# Altium footprint library PCB1.PcbLib: 31 footprints (part 2 of 2)
Each footprint in its own frame and in the unit in brackets; x right, y up, seen from the top. Pads: shape width x height; smd on the part's side, far side on the other; paste and mask are expansions set on the pad; w line width, h text height; cw(c..) or ccw(c..) is an arc to the next point about the centre after c.
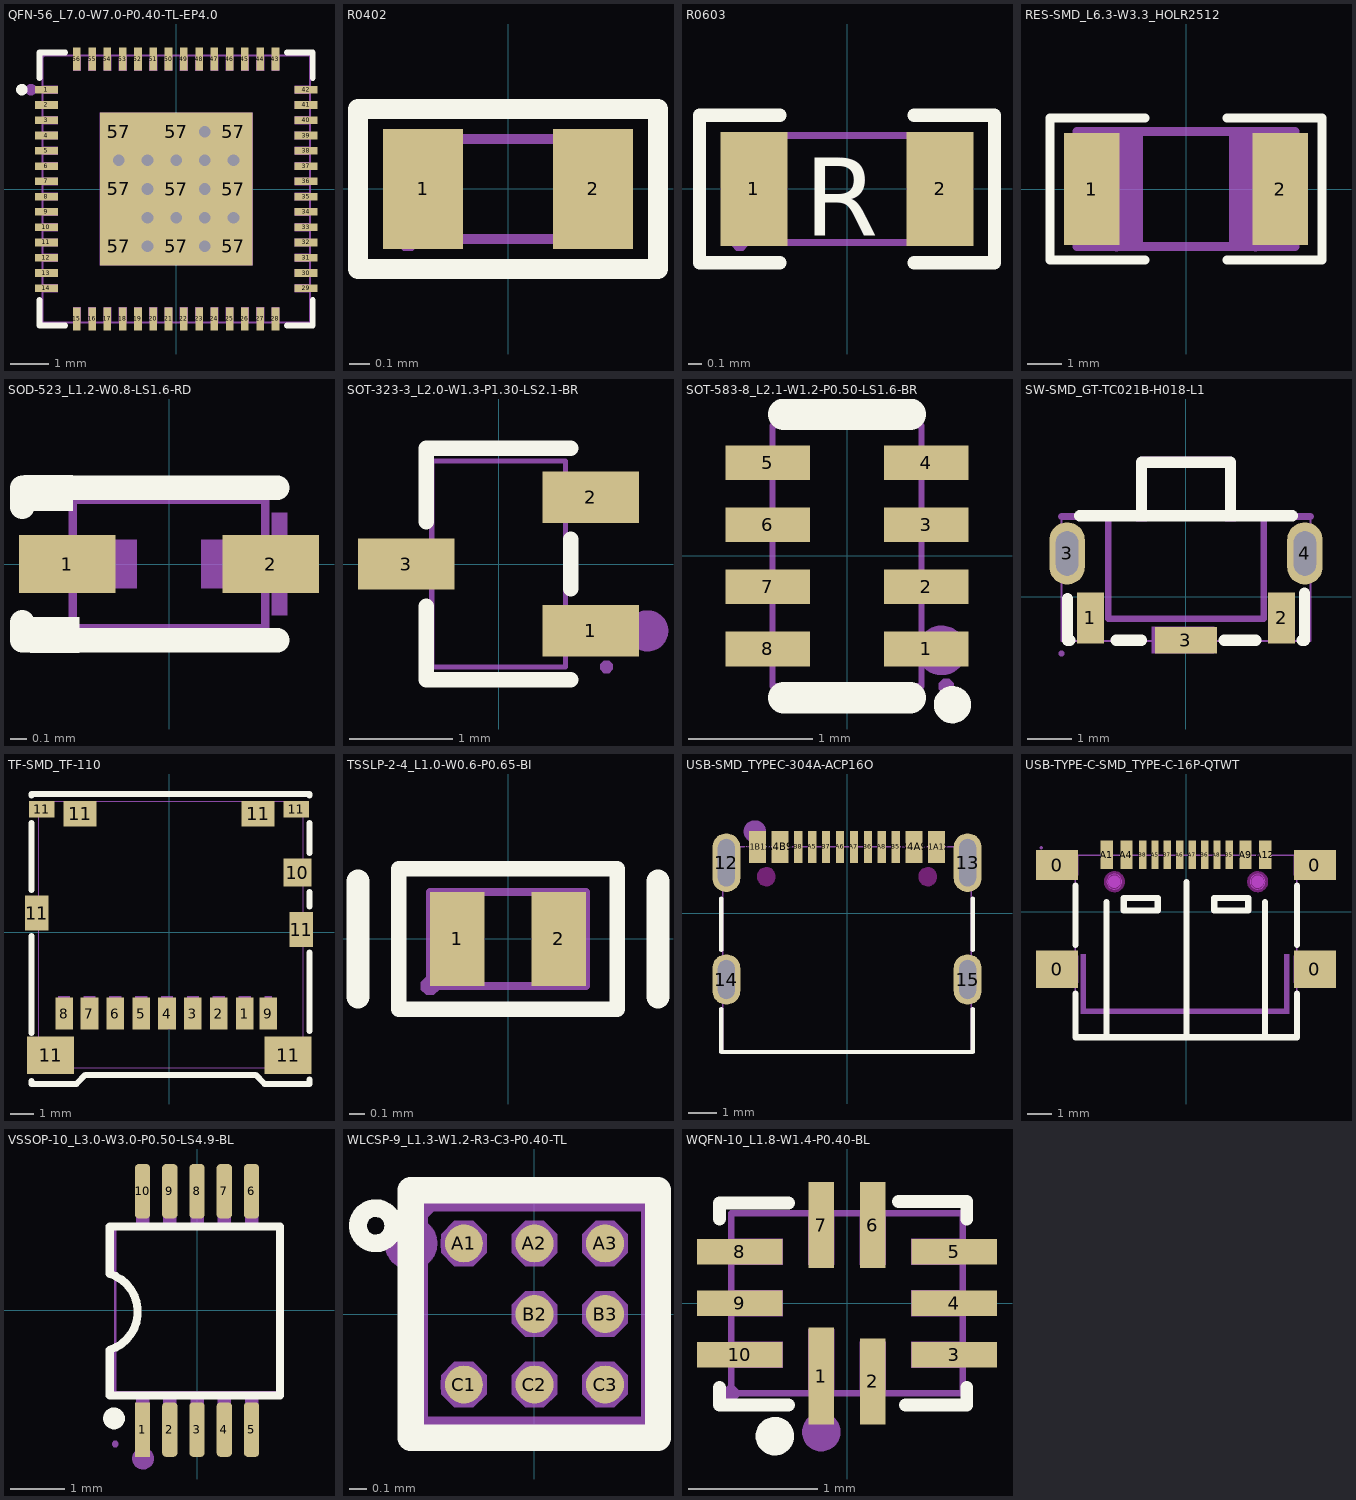
[diagram p1: the footprints below, top view; thin cyan lines are the x and y axes]

## QFN-56_L7.0-W7.0-P0.40-TL-EP4.0 [mm]
pads (65):
  rect 0.6x0.2 smd paste-100 mask+0.051: 1(-3.4,2.6) 2(-3.4,2.2) 3(-3.4,1.8) 4(-3.4,1.4) 5(-3.4,1) 6(-3.4,0.6) 7(-3.4,0.2) 8(-3.4,-0.2) 9(-3.4,-0.6) 10(-3.4,-1) 11(-3.4,-1.4) 12(-3.4,-1.8) 13(-3.4,-2.2) 14(-3.4,-2.6) 29(3.4,-2.6) 30(3.4,-2.2) 31(3.4,-1.8) 32(3.4,-1.4) 33(3.4,-1) 34(3.4,-0.6) 35(3.4,-0.2) 36(3.4,0.2) 37(3.4,0.6) 38(3.4,1) 39(3.4,1.4) 40(3.4,1.8) 41(3.4,2.2) 42(3.4,2.6)
  rect 0.2x0.6 smd paste-100 mask+0.051: 15(-2.6,-3.4) 16(-2.2,-3.4) 17(-1.8,-3.4) 18(-1.4,-3.4) 19(-1,-3.4) 20(-0.6,-3.4) 21(-0.2,-3.4) 22(0.2,-3.4) 23(0.6,-3.4) 24(1,-3.4) 25(1.4,-3.4) 26(1.8,-3.4) 27(2.2,-3.4) 28(2.6,-3.4) 43(2.6,3.4) 44(2.2,3.4) 45(1.8,3.4) 46(1.4,3.4) 47(1,3.4) 48(0.6,3.4) 49(0.2,3.4) 50(-0.2,3.4) 51(-0.6,3.4) 52(-1,3.4) 53(-1.4,3.4) 54(-1.8,3.4) 55(-2.2,3.4) 56(-2.6,3.4)
  rect 1x1 smd paste+0 mask+0: 57(-1.5,-1.499) 57(-1.5,0) 57(-1.5,1.5) 57(0,-1.499) 57(0,1.5) 57(1.5,-1.5) 57(1.5,0) 57(1.5,1.5)
  rect 4x4 smd paste-100 mask-100: 57(0,0)
via 0.75,0 diameter 0.559 hole 0.305
via 0.75,1.5 diameter 0.559 hole 0.305
via 1.5,0.75 diameter 0.559 hole 0.305
via 0,0.75 diameter 0.559 hole 0.305
via 0.749,0.749 diameter 0.559 hole 0.305
via -0.75,-1.499 diameter 0.559 hole 0.305
via -0.75,0 diameter 0.559 hole 0.305
via -0.75,0.75 diameter 0.559 hole 0.305
via -0.75,-0.75 diameter 0.559 hole 0.305
via -1.5,0.75 diameter 0.559 hole 0.305
via 0.749,-0.75 diameter 0.559 hole 0.305
via 1.5,-0.75 diameter 0.559 hole 0.305
via 0,-0.75 diameter 0.559 hole 0.305
via 0.75,-1.5 diameter 0.559 hole 0.305
Top Overlay:
  circle w0.15: c-4.04,2.6 r0.075
  lines w0.152: -3.576,-2.902 -3.576,-3.576 -2.902,-3.576 ; -3.576,2.903 -3.576,3.576 -2.902,3.576 ; 2.903,-3.576 3.576,-3.576 3.576,-2.902 ; 2.903,3.576 3.576,3.576 3.576,2.903
Top Paste:
  drawing of 65 lines, arcs and shapes, not listed
Top Solder:
  region: -0.5,-0.5 0.5,-0.5 0.5,0.5 -0.5,0.5
  region: 1,-0.5 2,-0.5 2,0.5 1,0.5
  region: -1,0.5 -2,0.5 -2,-0.5 -1,-0.5
  region: -0.5,1 0.5,1 0.5,2 -0.5,2
  region: 1,1 2,1 2,2 1,2
  region: -1,2 -2,2 -2,1 -1,1
  region: 0.5,-0.999 -0.5,-0.999 -0.5,-1.999 0.5,-1.999
  region: -1,-0.999 -2,-0.999 -2,-1.999 -1,-1.999
  region: 1,-2 2,-2 2,-1 1,-1
Mechanical 6:
  circle w0.15: c-3.8,2.6 r0.075
Mechanical 15:
  drawing of 62 lines, arcs and shapes, not listed

## R0402 [mm]
pads (2):
  rect 0.4x0.6 smd: 1(-0.425,0) 2(0.425,0)
Top Overlay:
  lines w0.1: -0.75,-0.4 0.75,-0.4 0.75,0.4 -0.75,0.4 -0.75,-0.4
Mechanical 15:
  region: 0.251,-0.25 0.251,0.25 0.501,0.25 0.501,-0.25
  region: -0.249,0.25 -0.249,-0.25 -0.499,-0.25 -0.499,0.25
  region: -0.5,-0.19 -0.525,-0.19 -0.559,-0.225 -0.559,-0.275 -0.524,-0.31 -0.5,-0.31 -0.475,-0.31 -0.441,-0.274 -0.441,-0.225 -0.475,-0.19 -0.5,-0.19
  lines w0.051: -0.5,-0.25 -0.5,0.25 0.5,0.25 0.5,-0.25 -0.5,-0.25

## R0603 [mm]
pads (2):
  rect 0.5x0.85 smd paste-0.05 mask+0.051: 1(-0.694,0) 2(0.694,0)
Top Overlay:
  lines w0.1: -0.5,-0.55 -1.1,-0.55 -1.1,0.55 -0.5,0.55 ; 0.5,-0.55 1.1,-0.55 1.1,0.55 0.5,0.55
  text "R" at -0.318,-0.54 h1
Mechanical 15:
  region: -0.8,-0.46 -0.775,-0.46 -0.74,-0.425 -0.74,-0.375 -0.775,-0.34 -0.8,-0.34 -0.825,-0.34 -0.86,-0.375 -0.86,-0.425 -0.825,-0.46 -0.8,-0.46
  region: 0.8,-0.4 0.8,0.4 0.5,0.4 0.5,-0.4
  region: -0.8,-0.4 -0.8,0.4 -0.5,0.4 -0.5,-0.4
  lines w0.051: -0.8,-0.4 0.8,-0.4 0.8,0.4 -0.8,0.4 -0.8,-0.4

## RES-SMD_L6.3-W3.3_HOLR2512 [mm]
pads (2):
  rect 1.6x3.2 smd: 1(-2.7,0) 2(2.7,0)
Top Overlay:
  lines w0.254: -1.17,-2.032 -3.9,-2.032 -3.9,2.032 -1.17,2.032 ; 1.17,-2.032 3.9,-2.032 3.9,2.032 1.17,2.032
Mechanical 15:
  region: -3.125,-1.65 -1.245,-1.65 -1.245,1.65 -3.125,1.65
  region: 1.245,-1.65 3.125,-1.65 3.125,1.65 1.245,1.65
  region: -3.065,-1.65 -3.066,-1.626 -3.101,-1.592 -3.149,-1.592 -3.184,-1.626 -3.185,-1.65 -3.184,-1.674 -3.149,-1.708 -3.101,-1.708 -3.066,-1.674 -3.065,-1.65
  lines w0.051: -3.125,-1.65 3.125,-1.65 3.125,1.65 -3.125,1.65 -3.125,-1.65
  lines w0.254: -2.006,1.65 -2.006,-1.651 -1.994,-1.664 ; 1.994,-1.664 2.006,-1.651 2.006,1.65 ; -3.124,-1.65 3.124,-1.65 3.124,1.65 -3.124,1.65 -3.124,-1.65

## SOD-523_L1.2-W0.8-LS1.6-RD [mm]
pads (2):
  rect 0.6x0.36 smd: 1(-0.635,0) 2(0.635,0)
Top Overlay:
  region: -0.6,0.552 -0.6,0.332 -0.905,0.332 -0.905,0.552
  region: -0.56,-0.552 -0.56,-0.332 -0.864,-0.332 -0.864,-0.552
  lines w0.152: -0.914,-0.363 -0.914,-0.476 -0.676,-0.476 0.676,-0.476 ; -0.914,0.356 -0.914,0.476 -0.676,0.476 0.676,0.476
Mechanical 6:
  region: -0.887,0.055 -0.887,-0.041 -0.503,-0.041 -0.503,0.055
  region: 0.88,0.048 0.88,-0.048 0.496,-0.048 0.496,0.048
  region: 0.736,0.32 0.736,-0.32 0.64,-0.32 0.64,0.32
Mechanical 15:
  region: -0.8,-0.15 -0.8,0.15 -0.2,0.15 -0.2,-0.15
  region: 0.8,-0.15 0.8,0.15 0.2,0.15 0.2,-0.15
  region: -0.74,-0.4 -0.741,-0.376 -0.776,-0.343 -0.824,-0.343 -0.859,-0.376 -0.86,-0.4 -0.859,-0.424 -0.824,-0.457 -0.776,-0.457 -0.741,-0.424 -0.74,-0.4
  lines w0.051: -0.6,-0.4 -0.6,0.4 0.6,0.4 0.6,-0.4 -0.6,-0.4

## SOT-323-3_L2.0-W1.3-P1.30-LS2.1-BR [mm]
pads (3):
  rect 0.936x0.5 smd: 1(0.898,-0.65) 2(0.898,0.65) 3(-0.898,0)
Top Overlay:
  lines w0.152: -0.701,-0.411 -0.701,-1.126 0.701,-1.126 ; -0.701,0.411 -0.701,1.126 0.701,1.126 ; 0.701,-0.239 0.701,0.239
Mechanical 6:
  circle w0.2: c1.45,-0.65 r0.1
Mechanical 15:
  region: -0.76,-0.175 -0.76,0.175 -0.64,0.175 -0.64,-0.175
  region: -1.05,-0.175 -1.05,0.175 -0.75,0.175 -0.75,-0.175
  region: 0.64,0.475 0.64,0.825 0.76,0.825 0.76,0.475
  region: 0.75,0.475 0.75,0.825 1.05,0.825 1.05,0.475
  region: 0.64,-0.825 0.64,-0.475 0.76,-0.475 0.76,-0.825
  region: 0.75,-0.825 0.75,-0.475 1.05,-0.475 1.05,-0.825
  region: 1.11,-1 1.11,-0.975 1.075,-0.94 1.025,-0.94 0.99,-0.975 0.99,-1 0.99,-1.025 1.025,-1.06 1.075,-1.06 1.11,-1.025 1.11,-1
  lines w0.051: -0.65,-1 -0.65,1 0.65,1 0.65,-1 -0.65,-1

## SOT-583-8_L2.1-W1.2-P0.50-LS1.6-BR [mm]
pads (8):
  rect 0.68x0.28 smd: 1(0.64,-0.75) 2(0.64,-0.25) 3(0.64,0.25) 4(0.64,0.75) 5(-0.64,0.75) 6(-0.64,0.25) 7(-0.64,-0.25) 8(-0.64,-0.75)
Top Overlay:
  circle w0.15: c0.85,-1.2 r0.075
  lines w0.254: -0.508,-1.143 0.508,-1.143 ; -0.508,1.143 0.508,1.143
Mechanical 6:
  circle w0.2: c0.762,-0.762 r0.1
Mechanical 15:
  region: -0.8,-0.64 -0.5,-0.64 -0.5,-0.86 -0.8,-0.86
  region: -0.8,-0.14 -0.5,-0.14 -0.5,-0.36 -0.8,-0.36
  region: -0.8,0.36 -0.5,0.36 -0.5,0.14 -0.8,0.14
  region: -0.8,0.86 -0.5,0.86 -0.5,0.64 -0.8,0.64
  region: 0.8,0.86 0.5,0.86 0.5,0.64 0.8,0.64
  region: 0.8,0.36 0.5,0.36 0.5,0.14 0.8,0.14
  region: 0.8,-0.14 0.5,-0.14 0.5,-0.36 0.8,-0.36
  region: 0.8,-0.64 0.5,-0.64 0.5,-0.86 0.8,-0.86
  region: 0.74,-1.05 0.741,-1.074 0.776,-1.108 0.824,-1.108 0.859,-1.074 0.86,-1.05 0.859,-1.026 0.824,-0.992 0.776,-0.992 0.741,-1.026 0.74,-1.05
  lines w0.051: -0.6,-1.05 -0.6,1.05 0.6,1.05 0.6,-1.05 -0.6,-1.05

## SW-SMD_GT-TC021B-H018-L1 [mm]
pads (5):
  rect 0.6x1.15 smd paste-100 mask+0.051: 1(-2.15,-0.475) 2(2.15,-0.475)
  oval 0.8x1.4 hole 0.5 slot 1 at 90 deg: 3(-2.675,0.975) 4(2.675,0.975)
  rect 1.4x0.6 smd paste-100 mask+0.051: 3(0,-0.975)
Top Overlay:
  lines w0.254: -2.667,-0.041 -2.667,-0.975 -2.618,-0.975 ; -2.393,1.825 0,1.825 2.393,1.825 ; -1.569,-0.975 -0.999,-0.975 ; -1,1.825 -1,3.025 1,3.025 1,1.825 ; 0.863,-0.975 1.569,-0.975 ; 2.618,-0.975 2.667,-0.975 2.667,0.086
Top Paste:
  drawing of 5 lines, arcs and shapes, not listed
Mechanical 6:
  region: 1.12,1.7 0.88,1.7 0.88,2.9 -0.88,2.9 -0.88,1.7 -1.12,1.7 -1.12,3.05 -1.02,3.15 1.02,3.15 1.12,3.05
  lines w0.152: -2.8,1.805 -1.75,1.805 -1.75,-0.495 ; 2.8,1.805 1.75,1.805 1.75,-0.495 -1.75,-0.495 ; -1.75,-0.495 -1.75,-0.495
Mechanical 15:
  region: -2.74,-1.275 -2.74,-1.25 -2.775,-1.215 -2.825,-1.215 -2.86,-1.25 -2.86,-1.275 -2.86,-1.3 -2.825,-1.335 -2.775,-1.335 -2.74,-1.3 -2.74,-1.275
  region: 2.6,1.325 2.8,1.325 2.8,0.625 2.6,0.625
  region: -2.8,1.325 -2.6,1.325 -2.6,0.625 -2.8,0.625
  region: 1.925,0.005 2.275,0.005 2.275,-0.795 1.925,-0.795
  region: -2.275,0.005 -1.925,0.005 -1.925,-0.795 -2.275,-0.795
  region: -0.768,-1.275 -0.768,-0.675 0.632,-0.675 0.632,-1.275
  lines w0.051: -2.8,-0.995 2.8,-0.995 2.8,1.805 0.95,1.805 0.95,3.005 -0.95,3.005 -0.95,1.805 -2.8,1.805 -2.8,-0.995

## TF-SMD_TF-110 [mm]
pads (18):
  rect 0.75x1.35 smd: 1(3.218,-3.455) 2(2.117,-3.455) 3(1.018,-3.455) 4(-0.082,-3.455) 5(-1.182,-3.455) 6(-2.282,-3.455) 7(-3.382,-3.455) 8(-4.462,-3.455) 9(4.218,-3.455)
  rect 1.2x1.2 smd: 10(5.465,2.545)
  rect 1x1.5 smd: 11(-5.631,0.82) 11(5.631,0.12)
  rect 1.1x0.7 smd: 11(-5.414,5.23) 11(5.414,5.23)
  rect 2x1.6 smd: 11(-5.032,-5.23) 11(5.068,-5.23)
  rect 1.4x1.1 smd: 11(-3.782,5.045) 11(3.794,5.045)
Top Overlay:
  lines w0.254: -5.842,-6.316 -5.842,-6.443 -3.937,-6.443 -3.556,-6.062 3.683,-6.062 4.064,-6.443 5.969,-6.443 5.969,-6.261 ; -5.842,-4.284 -5.842,-0.161 ; -5.842,1.801 -5.842,4.649 ; -5.842,5.811 -5.842,5.876 5.969,5.876 5.969,5.811 ; 5.969,-4.199 5.969,-0.861 ; 5.969,1.101 5.969,1.714 ; 5.969,3.376 5.969,4.649
Mechanical 15:
  region: 3.19,5.58 4.29,5.58 4.29,4.78 3.19,4.78
  region: -4.371,5.582 -3.271,5.582 -3.271,4.782 -4.371,4.782
  region: -5.549,5.433 -4.949,5.433 -4.949,4.933 -5.549,4.933
  region: 5.101,5.48 5.701,5.48 5.701,4.98 5.101,4.98
  region: 5.088,2.245 5.088,2.845 5.588,2.845 5.588,2.245
  region: -5.549,1.42 -5.349,1.42 -5.349,0.22 -5.549,0.22
  region: 5.501,0.72 5.701,0.72 5.701,-0.48 5.501,-0.48
  region: 4.068,-2.718 4.368,-2.718 4.368,-3.718 4.068,-3.718
  region: -4.712,-2.718 -4.212,-2.718 -4.212,-3.718 -4.712,-3.718
  region: -3.632,-2.718 -3.132,-2.718 -3.132,-3.718 -3.632,-3.718
  region: -2.532,-2.718 -2.032,-2.718 -2.032,-3.718 -2.532,-3.718
  region: -1.433,-2.718 -0.932,-2.718 -0.932,-3.718 -1.433,-3.718
  region: -0.332,-2.718 0.168,-2.718 0.168,-3.718 -0.332,-3.718
  region: 0.768,-2.718 1.268,-2.718 1.268,-3.718 0.768,-3.718
  region: 1.867,-2.718 2.367,-2.718 2.367,-3.718 1.867,-3.718
  region: 2.968,-2.718 3.468,-2.718 3.468,-3.718 2.968,-3.718
  region: -5.594,-4.529 -4.224,-4.529 -4.594,-5.34 -4.594,-5.768 -5.584,-5.767
  region: 4.455,-4.525 5.762,-4.529 5.756,-5.768 4.456,-5.767
  region: 5.822,-5.768 5.822,-5.743 5.787,-5.708 5.737,-5.708 5.702,-5.743 5.702,-5.768 5.702,-5.792 5.737,-5.828 5.787,-5.828 5.822,-5.793 5.822,-5.768
  lines w0.051: -5.549,-5.768 5.701,-5.768 5.701,5.582 -5.549,5.582 -5.549,-5.768

## TSSLP-2-4_L1.0-W0.6-P0.65-BI [mm]
pads (2):
  rect 0.35x0.6 smd: 1(-0.325,0) 2(0.325,0)
Top Overlay:
  lines w0.1: 0.69,-0.45 -0.7,-0.45 -0.7,0.45 0.7,0.45 0.7,-0.45
  lines w0.15: -0.96,-0.37 -0.96,0.37 ; 0.96,-0.37 0.96,0.37
Mechanical 15:
  region: -0.44,-0.3 -0.441,-0.276 -0.476,-0.242 -0.524,-0.242 -0.559,-0.276 -0.56,-0.3 -0.559,-0.324 -0.524,-0.358 -0.476,-0.358 -0.441,-0.324 -0.44,-0.3
  region: -0.2,0.25 -0.2,-0.25 -0.45,-0.25 -0.45,0.25
  region: 0.45,0.25 0.45,-0.25 0.2,-0.25 0.2,0.25
  lines w0.051: -0.5,-0.3 0.5,-0.3 0.5,0.3 -0.5,0.3 -0.5,-0.3

## USB-SMD_TYPEC-304A-ACP16O [mm]
pads (16):
  oval 1x2.1 hole 0.6 slot 1.7 at 90 deg paste+0 mask+0.05: 12(-4.32,1.808) 13(4.32,1.808)
  oval 1x1.8 hole 0.6 slot 1.4 at 90 deg paste+0 mask+0.05: 14(-4.32,-2.372) 15(4.32,-2.372)
  rect 0.6x1.15 smd paste-100 mask+0.05: A1B12(-3.2,2.372) A4B9(-2.4,2.372) B1A12(3.2,2.372) B4A9(2.4,2.372)
  rect 0.3x1.15 smd paste-100 mask+0.05: A5(-1.25,2.372) A6(-0.25,2.372) A7(0.25,2.372) A8(1.25,2.372) B5(1.75,2.372) B6(0.75,2.372) B7(-0.75,2.372) B8(-1.75,2.372)
Top Overlay:
  lines w0.15: -4.5,-3.427 -4.5,-4.972 4.5,-4.972 4.5,-3.427 ; -4.5,-1.318 -4.5,0.528 ; 4.5,-1.318 4.5,0.528
Top Paste:
  drawing of 16 lines, arcs and shapes, not listed
Keep-Out Layer:
  circle w0.005: c2.89,1.307 r0.325
  circle w0.005: c-2.89,1.307 r0.325
  board cut-out: 2.89,1.632 2.825,1.632 2.706,1.583 2.614,1.492 2.565,1.372 2.565,1.243 2.614,1.123 2.706,1.032 2.825,0.982 2.89,0.982 2.955,0.982 3.074,1.032 3.166,1.123 3.215,1.243 3.215,1.372 3.166,1.492 3.074,1.583 2.955,1.632 2.89,1.632
  board cut-out: -2.89,1.632 -2.955,1.632 -3.074,1.583 -3.166,1.492 -3.215,1.372 -3.215,1.243 -3.166,1.123 -3.074,1.032 -2.955,0.982 -2.89,0.982 -2.825,0.982 -2.706,1.032 -2.615,1.123 -2.565,1.243 -2.565,1.372 -2.614,1.492 -2.706,1.583 -2.825,1.632 -2.89,1.632
Mechanical 6:
  circle w0.4: c-3.3,2.927 r0.2
Mechanical 15:
  region: -4.47,2.667 -4.494,2.666 -4.528,2.632 -4.528,2.583 -4.494,2.549 -4.47,2.548 -4.446,2.549 -4.413,2.583 -4.413,2.632 -4.446,2.666 -4.47,2.667
  region: 4.17,-1.972 4.47,-1.972 4.47,-2.772 4.17,-2.772
  region: -4.47,-1.972 -4.17,-1.972 -4.17,-2.772 -4.47,-2.772
  region: 4.17,2.358 4.47,2.358 4.47,1.258 4.17,1.258
  region: -4.47,2.358 -4.17,2.358 -4.17,1.258 -4.47,1.258
  region: 1.65,2.608 1.85,2.608 1.85,2.008 1.65,2.008
  region: 1.15,2.608 1.35,2.608 1.35,2.008 1.15,2.008
  region: 0.15,2.608 0.35,2.608 0.35,2.008 0.15,2.008
  region: 0.65,2.608 0.85,2.608 0.85,2.008 0.65,2.008
  region: -0.35,2.608 -0.15,2.608 -0.15,2.008 -0.35,2.008
  region: -0.85,2.608 -0.65,2.608 -0.65,2.008 -0.85,2.008
  region: -1.35,2.608 -1.15,2.608 -1.15,2.008 -1.35,2.008
  region: -1.85,2.608 -1.65,2.608 -1.65,2.008 -1.85,2.008
  region: 3,2.608 3.4,2.608 3.4,2.008 3,2.008
  region: 2.2,2.608 2.6,2.608 2.6,2.008 2.2,2.008
  region: -2.6,2.608 -2.2,2.608 -2.2,2.008 -2.6,2.008
  region: -3.4,2.608 -3,2.608 -3,2.008 -3.4,2.008
  lines w0.051: -4.45,-4.972 4.45,-4.972 4.45,2.378 -4.45,2.378 -4.45,-4.972

## USB-TYPE-C-SMD_TYPE-C-16P-QTWT [mm]
pads (16):
  rect 1.7x1.5 smd: 0(-5.2,-2.309) 0(5.2,-2.309)
  rect 1.7x1.2 smd: 0(-5.2,1.891) 0(5.2,1.891)
  rect 0.5x1.14 smd: A1(-3.2,2.308) A4(-2.4,2.308) A9(2.4,2.308) A12(3.2,2.308)
  rect 0.3x1.14 smd: A5(-1.25,2.308) A6(-0.25,2.308) A7(0.25,2.308) A8(1.25,2.309) B5(1.75,2.308) B6(0.75,2.308) B7(-0.75,2.308) B8(-1.75,2.309)
Top Overlay:
  lines w0.254: -4.46,-3.29 -4.46,-5.049 4.48,-5.049 4.48,-3.29 ; -4.46,-1.328 -4.46,1.06 ; -3.21,-5.049 -3.21,0.401 ; 0.02,-5.049 0.02,1.201 ; 3.19,-5.049 3.19,0.401 ; 4.48,-1.328 4.48,1.061 ; -2.515,0.061 -2.515,0.561 -1.145,0.561 -1.145,0.061 -2.515,0.061 ; 1.145,0.061 1.145,0.561 2.515,0.561 2.515,0.061 1.145,0.061
Keep-Out Layer:
  board cut-out: -2.59,1.221 -2.591,1.28 -2.637,1.389 -2.721,1.472 -2.831,1.517 -2.949,1.517 -3.058,1.472 -3.143,1.389 -3.189,1.28 -3.19,1.221 -3.189,1.162 -3.143,1.053 -3.058,0.97 -2.949,0.925 -2.831,0.925 -2.721,0.97 -2.637,1.053 -2.591,1.162 -2.59,1.221
  board cut-out: 3.19,1.221 3.189,1.28 3.143,1.389 3.058,1.472 2.949,1.517 2.831,1.517 2.722,1.472 2.637,1.389 2.591,1.28 2.59,1.221 2.591,1.162 2.637,1.053 2.722,0.97 2.831,0.925 2.949,0.925 3.059,0.97 3.143,1.053 3.189,1.162 3.19,1.221
Mechanical 1:
  circle w0.025: c-2.89,1.221 r0.3
  circle w0.025: c2.89,1.221 r0.3
Mechanical 6:
  circle w0.25: c-2.89,1.221 r0.125
  circle w0.25: c2.89,1.221 r0.125
  region: -4.24,-1.699 -4.24,-4.099 -4.04,-4.099 -4.04,-1.699
  region: 4.16,-1.699 4.16,-4.099 3.96,-4.099 3.96,-1.699
  region: 3.96,-4.099 -4.04,-4.099 -4.04,-3.899 3.96,-3.899
Mechanical 15:
  region: -5.84,-1.759 -4.34,-1.759 -4.34,-2.859 -5.84,-2.859
  region: 4.34,-1.759 5.84,-1.759 5.84,-2.859 4.34,-2.859
  region: -5.84,2.291 -4.34,2.291 -4.34,1.491 -5.84,1.491
  region: 4.34,2.291 5.84,2.291 5.84,1.491 4.34,1.491
  region: 3,2.591 3.4,2.591 3.4,1.991 3,1.991
  region: 2.2,2.591 2.6,2.591 2.6,1.991 2.2,1.991
  region: -3.4,2.591 -3,2.591 -3,1.991 -3.4,1.991
  region: -2.6,2.591 -2.2,2.591 -2.2,1.991 -2.6,1.991
  region: 1.65,2.591 1.85,2.591 1.85,1.991 1.65,1.991
  region: 1.15,2.591 1.35,2.591 1.35,1.991 1.15,1.991
  region: 0.65,2.591 0.85,2.591 0.85,1.991 0.65,1.991
  region: 0.15,2.591 0.35,2.591 0.35,1.991 0.15,1.991
  region: -0.35,2.591 -0.15,2.591 -0.15,1.991 -0.35,1.991
  region: -0.85,2.591 -0.65,2.591 -0.65,1.991 -0.85,1.991
  region: -1.35,2.591 -1.15,2.591 -1.15,1.991 -1.35,1.991
  region: -1.85,2.591 -1.65,2.591 -1.65,1.991 -1.85,1.991
  region: -5.78,2.591 -5.78,2.616 -5.815,2.651 -5.865,2.651 -5.9,2.616 -5.9,2.591 -5.9,2.566 -5.865,2.531 -5.815,2.531 -5.78,2.566 -5.78,2.591
  lines w0.051: -4.47,-5.059 -4.47,2.291 4.47,2.291 4.47,-5.059 -4.47,-5.059
Multi-Layer keep-out:
  circle w0.254: c-2.89,1.221 r0.3
  circle w0.254: c2.89,1.221 r0.3

## VSSOP-10_L3.0-W3.0-P0.50-LS4.9-BL [mm]
pads (10):
  rect 0.28x1 smd paste+0 mask+0.015: 1(-1,-2.186)
  rrect50% 0.28x1 smd paste+0 mask+0.015: 2(-0.5,-2.186) 3(0,-2.186) 4(0.5,-2.186) 5(1,-2.186)
  rrect50% 0.28x1 smd: 6(1,2.186) 7(0.5,2.186) 8(0,2.186) 9(-0.5,2.186) 10(-1,2.186)
Top Overlay:
  circle w0.2: c-1.524,-1.981 r0.1
  lines w0.15: -1.603,-1.562 -1.603,-0.724 ccw(c-1.82,-0.026) -1.603,0.673 ; -1.603,0.698 -1.603,1.537 ; -1.578,-1.562 1.522,-1.562 ; -1.578,1.537 1.522,1.537 1.522,-1.564
Mechanical 6:
  circle w0.2: c-0.99,-2.718 r0.1
Mechanical 15:
  region: -1.12,1.49 -1.12,1.91 -0.88,1.91 -0.88,1.49
  region: -1.12,1.9 -1.12,2.45 -0.88,2.45 -0.88,1.9
  region: -0.62,1.49 -0.62,1.91 -0.38,1.91 -0.38,1.49
  region: -0.62,1.9 -0.62,2.45 -0.38,2.45 -0.38,1.9
  region: -0.12,1.49 -0.12,1.91 0.12,1.91 0.12,1.49
  region: -0.12,1.9 -0.12,2.45 0.12,2.45 0.12,1.9
  region: 0.38,1.49 0.38,1.91 0.62,1.91 0.62,1.49
  region: 0.38,1.9 0.38,2.45 0.62,2.45 0.62,1.9
  region: 0.88,1.49 0.88,1.91 1.12,1.91 1.12,1.49
  region: 0.88,1.9 0.88,2.45 1.12,2.45 1.12,1.9
  region: 0.88,-1.91 0.88,-1.49 1.12,-1.49 1.12,-1.91
  region: 0.88,-2.45 0.88,-1.9 1.12,-1.9 1.12,-2.45
  region: 0.38,-1.91 0.38,-1.49 0.62,-1.49 0.62,-1.91
  region: 0.38,-2.45 0.38,-1.9 0.62,-1.9 0.62,-2.45
  region: -0.12,-1.91 -0.12,-1.49 0.12,-1.49 0.12,-1.91
  region: -0.12,-2.45 -0.12,-1.9 0.12,-1.9 0.12,-2.45
  region: -0.62,-1.91 -0.62,-1.49 -0.38,-1.49 -0.38,-1.91
  region: -0.62,-2.45 -0.62,-1.9 -0.38,-1.9 -0.38,-2.45
  region: -1.12,-1.91 -1.12,-1.49 -0.88,-1.49 -0.88,-1.91
  region: -1.12,-2.45 -1.12,-1.9 -0.88,-1.9 -0.88,-2.45
  region: -1.5,-2.51 -1.476,-2.509 -1.442,-2.474 -1.442,-2.426 -1.476,-2.391 -1.5,-2.39 -1.524,-2.391 -1.558,-2.426 -1.558,-2.474 -1.524,-2.509 -1.5,-2.51
  lines w0.051: -1.5,-1.5 1.5,-1.5 1.5,1.5 -1.5,1.5 -1.5,-1.5

## WLCSP-9_L1.3-W1.2-R3-C3-P0.40-TL [mm]
pads (8):
  round 0.215 smd paste-100 mask+0.051: A1(-0.4,0.4) A2(0,0.4) A3(0.4,0.4) B2(0,0) B3(0.4,0) C1(-0.4,-0.4) C2(0,-0.4) C3(0.4,-0.4)
Top Overlay:
  circle w0.1: c-0.9,0.5 r0.1
  lines w0.15: -0.7,-0.7 -0.7,-0.433 -0.7,0.433 -0.7,0.7 -0.466,0.7 0.466,0.7 0.7,0.7 0.7,0.433 0.7,-0.433 0.7,-0.7 0.466,-0.7 -0.466,-0.7 -0.7,-0.7
Top Paste:
  region: 0.317,0.504 0.483,0.504 0.504,0.483 0.504,0.317 0.483,0.296 0.317,0.296 0.296,0.317 0.296,0.483
  region: 0.317,0.104 0.483,0.104 0.504,0.083 0.504,-0.083 0.483,-0.104 0.317,-0.104 0.296,-0.083 0.296,0.083
  region: 0.317,-0.296 0.483,-0.296 0.504,-0.317 0.504,-0.483 0.483,-0.504 0.317,-0.504 0.296,-0.483 0.296,-0.317
  region: -0.083,0.504 0.083,0.504 0.104,0.483 0.104,0.317 0.083,0.296 -0.083,0.296 -0.104,0.317 -0.104,0.483
  region: -0.083,0.104 0.083,0.104 0.104,0.083 0.104,-0.083 0.083,-0.104 -0.083,-0.104 -0.104,-0.083 -0.104,0.083
  region: -0.083,-0.296 0.083,-0.296 0.104,-0.317 0.104,-0.483 0.083,-0.504 -0.083,-0.504 -0.104,-0.483 -0.104,-0.317
  region: -0.483,0.504 -0.317,0.504 -0.296,0.483 -0.296,0.317 -0.317,0.296 -0.483,0.296 -0.504,0.317 -0.504,0.483
  region: -0.483,-0.296 -0.317,-0.296 -0.296,-0.317 -0.296,-0.483 -0.317,-0.504 -0.483,-0.504 -0.504,-0.483 -0.504,-0.317
Mechanical 6:
  circle w0.15: c-0.7,0.4 r0.075
Mechanical 15:
  region: -0.57,0.607 -0.571,0.632 -0.606,0.665 -0.654,0.665 -0.689,0.632 -0.69,0.607 -0.689,0.583 -0.654,0.549 -0.606,0.549 -0.571,0.583 -0.57,0.607
  region: -0.27,0.4 -0.271,0.453 -0.347,0.528 -0.453,0.528 -0.529,0.453 -0.53,0.4 -0.529,0.346 -0.453,0.271 -0.346,0.271 -0.271,0.347 -0.27,0.4
  region: 0.13,0.4 0.129,0.453 0.053,0.528 -0.054,0.528 -0.13,0.453 -0.13,0.4 -0.129,0.346 -0.053,0.271 0.053,0.271 0.129,0.347 0.13,0.4
  region: 0.53,0.4 0.529,0.453 0.453,0.528 0.346,0.528 0.271,0.453 0.27,0.4 0.271,0.346 0.347,0.271 0.453,0.271 0.529,0.347 0.53,0.4
  region: 0.13,0 0.13,0.053 0.054,0.128 -0.053,0.128 -0.129,0.053 -0.13,0 -0.129,-0.054 -0.053,-0.129 0.054,-0.129 0.13,-0.054 0.13,0
  region: 0.53,0 0.529,0.053 0.453,0.128 0.346,0.128 0.271,0.053 0.27,0 0.271,-0.054 0.347,-0.129 0.453,-0.129 0.529,-0.054 0.53,0
  region: -0.27,-0.4 -0.271,-0.347 -0.347,-0.271 -0.453,-0.271 -0.529,-0.347 -0.53,-0.4 -0.529,-0.453 -0.453,-0.528 -0.346,-0.528 -0.271,-0.453 -0.27,-0.4
  region: 0.13,-0.4 0.129,-0.347 0.053,-0.271 -0.054,-0.271 -0.13,-0.347 -0.13,-0.4 -0.129,-0.453 -0.053,-0.528 0.053,-0.528 0.129,-0.453 0.13,-0.4
  region: 0.53,-0.4 0.529,-0.347 0.453,-0.271 0.346,-0.271 0.271,-0.347 0.27,-0.4 0.271,-0.453 0.347,-0.528 0.453,-0.528 0.529,-0.453 0.53,-0.4
  lines w0.051: -0.63,-0.608 -0.63,0.607 0.63,0.607 0.63,-0.608 -0.63,-0.608

## WQFN-10_L1.8-W1.4-P0.40-BL [mm]
pads (10):
  rect 0.2x0.75 smd: 1(-0.2,-0.565)
  rect 0.2x0.665 smd: 2(0.2,-0.608) 6(0.2,0.608) 7(-0.2,0.608)
  rect 0.665x0.2 smd: 3(0.832,-0.4) 4(0.832,0) 5(0.832,0.4) 8(-0.832,0.4) 9(-0.832,0) 10(-0.832,-0.4)
Top Overlay:
  circle w0.15: c-0.56,-1.032 r0.075
  lines w0.1: -0.99,-0.654 -0.99,-0.79 -0.454,-0.79 ; -0.99,0.654 -0.99,0.78 -0.454,0.78 ; 0.4,0.79 0.93,0.79 0.93,0.654 ; 0.454,-0.79 0.93,-0.79 0.93,-0.76 0.93,-0.654
Mechanical 6:
  circle w0.15: c-0.2,-1 r0.075
Mechanical 15:
  region: 0.1,-0.7 0.1,-0.3 0.3,-0.3 0.3,-0.7
  region: 0.5,-0.5 0.5,-0.3 0.9,-0.3 0.9,-0.5
  region: 0.5,-0.1 0.5,0.1 0.9,0.1 0.9,-0.1
  region: 0.5,0.3 0.5,0.5 0.9,0.5 0.9,0.3
  region: 0.1,0.7 0.1,0.3 0.3,0.3 0.3,0.7
  region: -0.3,0.7 -0.3,0.3 -0.1,0.3 -0.1,0.7
  region: -0.5,0.3 -0.5,0.5 -0.9,0.5 -0.9,0.3
  region: -0.5,-0.1 -0.5,0.1 -0.9,0.1 -0.9,-0.1
  region: -0.5,-0.5 -0.5,-0.3 -0.9,-0.3 -0.9,-0.5
  region: -0.3,-0.2 -0.1,-0.2 -0.1,-0.7 -0.3,-0.7
  region: -0.9,-0.76 -0.875,-0.76 -0.84,-0.725 -0.84,-0.675 -0.875,-0.64 -0.9,-0.64 -0.925,-0.64 -0.96,-0.675 -0.96,-0.725 -0.925,-0.76 -0.9,-0.76
  lines w0.051: -0.9,-0.7 -0.9,0.7 0.9,0.7 0.9,-0.7 -0.9,-0.7